# Altium footprint library QFP.PcbLib: 39 footprints (part 1 of 3)
Each footprint in its own frame and in the unit in brackets; x right, y up, seen from the top. Pads: shape width x height; smd on the part's side, far side on the other; paste and mask are expansions set on the pad; w line width, h text height; cw(c..) or ccw(c..) is an arc to the next point about the centre after c.
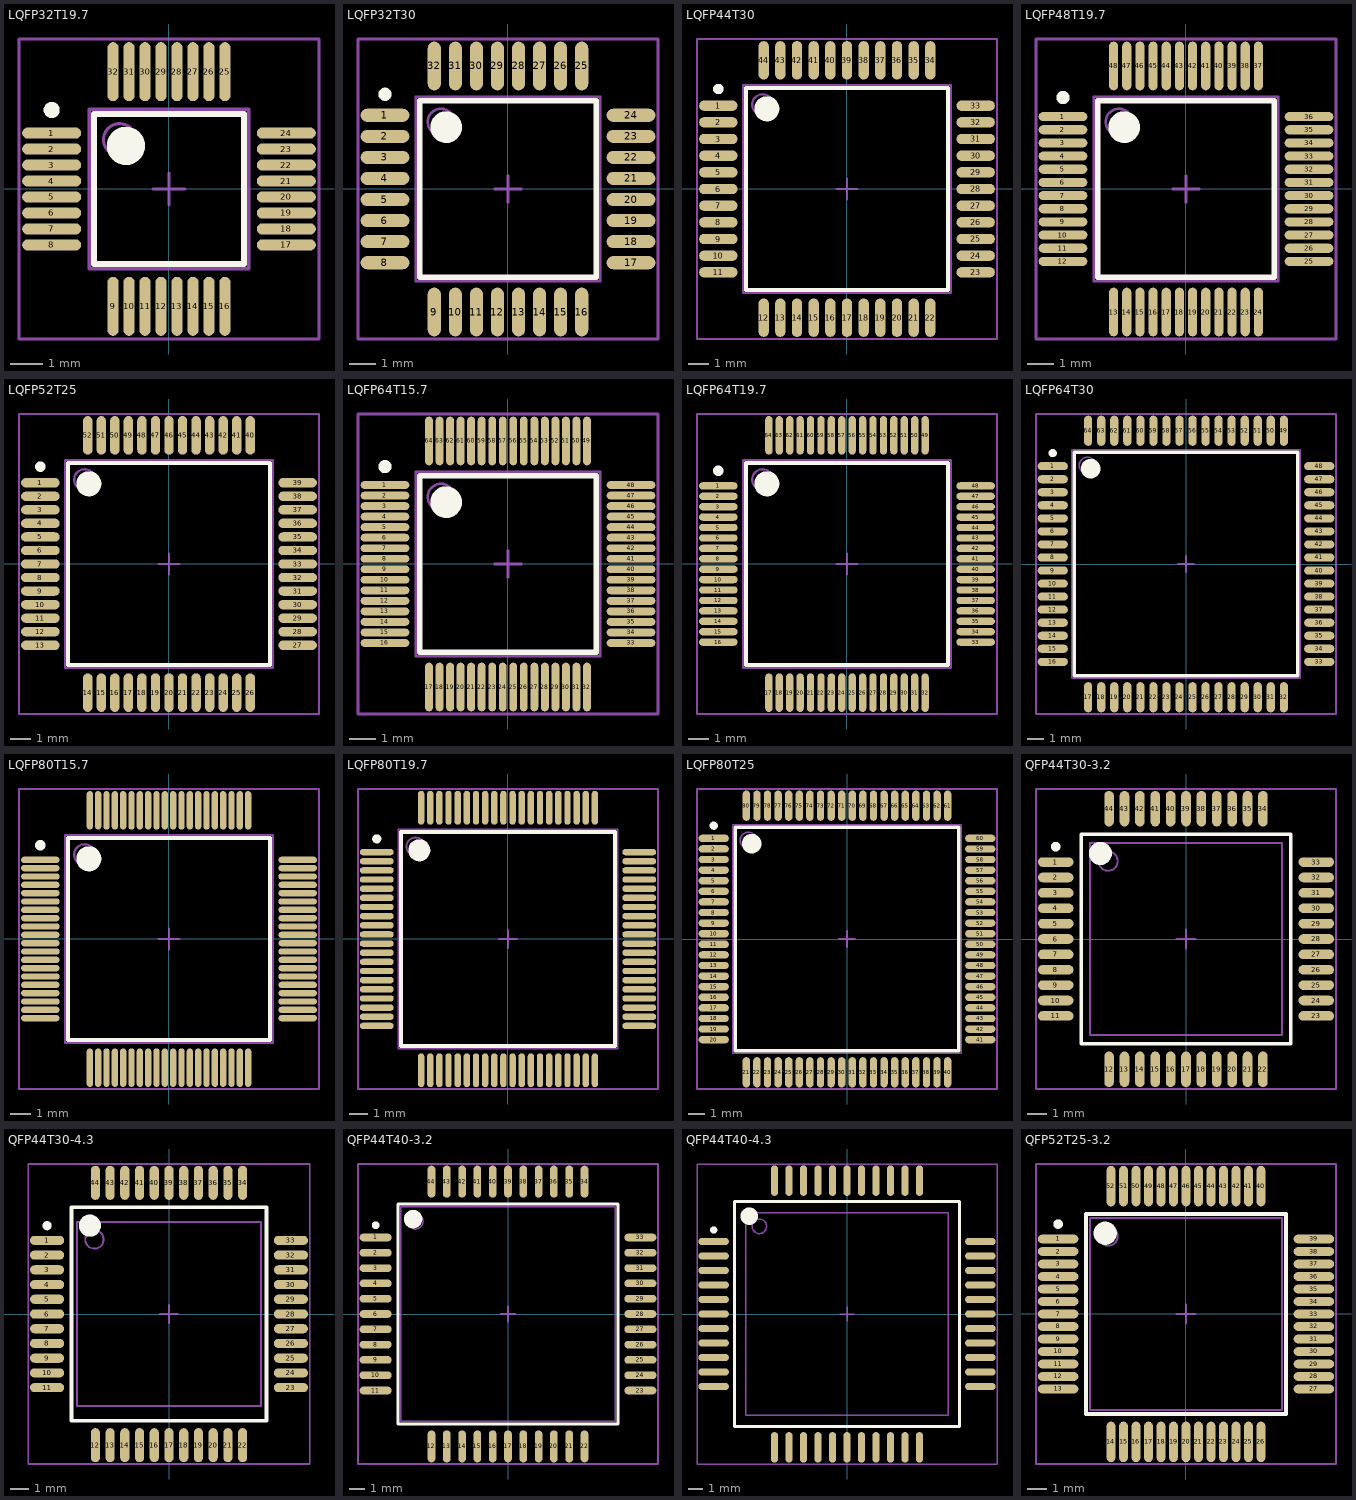
[diagram p0: the footprints below, top view; thin cyan lines are the x and y axes]

## LQFP32T19.7 [mm] "32 5 x 5mm 0.5mm (19.7mil)"
height 1.6
pads (32):
  oval 1.85x0.35 smd: 1(-3.675,1.75) 2(-3.675,1.25) 3(-3.675,0.75) 4(-3.675,0.25) 5(-3.675,-0.25) 6(-3.675,-0.75) 7(-3.675,-1.25) 8(-3.675,-1.75) 17(3.675,-1.75) 18(3.675,-1.25) 19(3.675,-0.75) 20(3.675,-0.25) 21(3.675,0.25) 22(3.675,0.75) 23(3.675,1.25) 24(3.675,1.75)
  oval 0.35x1.85 smd: 9(-1.75,-3.675) 10(-1.25,-3.675) 11(-0.75,-3.675) 12(-0.25,-3.675) 13(0.25,-3.675) 14(0.75,-3.675) 15(1.25,-3.675) 16(1.75,-3.675) 25(1.75,3.675) 26(1.25,3.675) 27(0.75,3.675) 28(0.25,3.675) 29(-0.25,3.675) 30(-0.75,3.675) 31(-1.25,3.675) 32(-1.75,3.675)
Top Overlay:
  circle w0.6: c-1.35,1.35 r0.3
  circle w0.25: c-3.675,2.475 r0.125
  lines w0.2: -2.35,-2.35 2.35,-2.35 2.35,2.35 -2.35,2.35 -2.35,-2.35
Mechanical 13:
  circle w0.1: c-1.55,1.55 r0.5
  lines w0.1: -2.5,-2.5 2.5,-2.5 2.5,2.5 -2.5,2.5 -2.5,-2.5
Mechanical 15:
  lines w0.1: -0.5,0 0.5,0 ; 0,-0.5 0,0.5 ; -4.7,-4.7 4.7,-4.7 4.7,4.7 -4.7,4.7 -4.7,-4.7
3D body: height 1.6, standoff 0.15, extent -2.5,-2.5 2.5,2.5

## LQFP32T30 [mm] "32 7 x 7mm 0.8mm (31.5mil)"
height 1.6
pads (32):
  oval 1.85x0.5 smd: 1(-4.675,2.8) 2(-4.675,2) 3(-4.675,1.2) 4(-4.675,0.4) 5(-4.675,-0.4) 6(-4.675,-1.2) 7(-4.675,-2) 8(-4.675,-2.8) 17(4.675,-2.8) 18(4.675,-2) 19(4.675,-1.2) 20(4.675,-0.4) 21(4.675,0.4) 22(4.675,1.2) 23(4.675,2) 24(4.675,2.8)
  oval 0.5x1.85 smd: 9(-2.8,-4.675) 10(-2,-4.675) 11(-1.2,-4.675) 12(-0.4,-4.675) 13(0.4,-4.675) 14(1.2,-4.675) 15(2,-4.675) 16(2.8,-4.675) 25(2.8,4.675) 26(2,4.675) 27(1.2,4.675) 28(0.4,4.675) 29(-0.4,4.675) 30(-1.2,4.675) 31(-2,4.675) 32(-2.8,4.675)
Top Overlay:
  circle w0.6: c-2.35,2.35 r0.3
  circle w0.25: c-4.675,3.6 r0.125
  lines w0.2: -3.35,-3.35 3.35,-3.35 3.35,3.35 -3.35,3.35 -3.35,-3.35
Mechanical 13:
  circle w0.1: c-2.55,2.55 r0.5
  lines w0.1: -3.5,-3.5 3.5,-3.5 3.5,3.5 -3.5,3.5 -3.5,-3.5
Mechanical 15:
  lines w0.1: -0.5,0 0.5,0 ; 0,-0.5 0,0.5 ; -5.7,-5.7 5.7,-5.7 5.7,5.7 -5.7,5.7 -5.7,-5.7
3D body: height 1.6, standoff 0.2, extent -3.5,-3.5 3.5,3.5

## LQFP44T30 [mm] "44 10 x 10mm 0.8mm (31.5mil)"
height 1.6
pads (44):
  oval 1.85x0.5 smd: 1(-6.175,4) 2(-6.175,3.2) 3(-6.175,2.4) 4(-6.175,1.6) 5(-6.175,0.8) 6(-6.175,0) 7(-6.175,-0.8) 8(-6.175,-1.6) 9(-6.175,-2.4) 10(-6.175,-3.2) 11(-6.175,-4) 23(6.175,-4) 24(6.175,-3.2) 25(6.175,-2.4) 26(6.175,-1.6) 27(6.175,-0.8) 28(6.175,0) 29(6.175,0.8) 30(6.175,1.6) 31(6.175,2.4) 32(6.175,3.2) 33(6.175,4)
  oval 0.5x1.85 smd: 12(-4,-6.175) 13(-3.2,-6.175) 14(-2.4,-6.175) 15(-1.6,-6.175) 16(-0.8,-6.175) 17(0,-6.175) 18(0.8,-6.175) 19(1.6,-6.175) 20(2.4,-6.175) 21(3.2,-6.175) 22(4,-6.175) 34(4,6.175) 35(3.2,6.175) 36(2.4,6.175) 37(1.6,6.175) 38(0.8,6.175) 39(0,6.175) 40(-0.8,6.175) 41(-1.6,6.175) 42(-2.4,6.175) 43(-3.2,6.175) 44(-4,6.175)
Top Overlay:
  circle w0.25: c-6.175,4.8 r0.125
  circle w0.6: c-3.85,3.85 r0.3
  lines w0.2: -4.85,-4.85 -4.85,4.85 4.85,4.85 4.85,-4.85 -4.85,-4.85
Mechanical 13:
  circle w0.1: c-4.05,4.05 r0.5
  lines w0.1: -5,-5 -5,5 5,5 5,-5 -5,-5
Mechanical 15:
  lines w0.1: -0.5,0 0.5,0 ; 0,-0.5 0,0.5 ; -7.2,-7.2 -7.2,7.2 7.2,7.2 7.2,-7.2 -7.2,-7.2
3D body: height 1.6, standoff 0.2, extent -5,-5 5,5

## LQFP48T19.7 [mm] "48 7 x 7mm 0.5mm (19.7mil)"
height 1.6
pads (48):
  oval 1.85x0.35 smd: 1(-4.675,2.75) 2(-4.675,2.25) 3(-4.675,1.75) 4(-4.675,1.25) 5(-4.675,0.75) 6(-4.675,0.25) 7(-4.675,-0.25) 8(-4.675,-0.75) 9(-4.675,-1.25) 10(-4.675,-1.75) 11(-4.675,-2.25) 12(-4.675,-2.75) 25(4.675,-2.75) 26(4.675,-2.25) 27(4.675,-1.75) 28(4.675,-1.25) 29(4.675,-0.75) 30(4.675,-0.25) 31(4.675,0.25) 32(4.675,0.75) 33(4.675,1.25) 34(4.675,1.75) 35(4.675,2.25) 36(4.675,2.75)
  oval 0.35x1.85 smd: 13(-2.75,-4.675) 14(-2.25,-4.675) 15(-1.75,-4.675) 16(-1.25,-4.675) 17(-0.75,-4.675) 18(-0.25,-4.675) 19(0.25,-4.675) 20(0.75,-4.675) 21(1.25,-4.675) 22(1.75,-4.675) 23(2.25,-4.675) 24(2.75,-4.675) 37(2.75,4.675) 38(2.25,4.675) 39(1.75,4.675) 40(1.25,4.675) 41(0.75,4.675) 42(0.25,4.675) 43(-0.25,4.675) 44(-0.75,4.675) 45(-1.25,4.675) 46(-1.75,4.675) 47(-2.25,4.675) 48(-2.75,4.675)
Top Overlay:
  circle w0.25: c-4.675,3.475 r0.125
  circle w0.6: c-2.35,2.35 r0.3
  lines w0.2: -3.35,-3.35 -3.35,3.35 3.35,3.35 3.35,-3.35 -3.35,-3.35
Mechanical 13:
  circle w0.1: c-2.55,2.55 r0.5
  lines w0.1: -3.5,-3.5 -3.5,3.5 3.5,3.5 3.5,-3.5 -3.5,-3.5
Mechanical 15:
  lines w0.1: -0.5,0 0.5,0 ; 0,-0.5 0,0.5 ; -5.7,-5.7 -5.7,5.7 5.7,5.7 5.7,-5.7 -5.7,-5.7
3D body: height 1.6, standoff 0.15, extent -3.5,-3.5 3.5,3.5

## LQFP52T25 [mm] "52 10 x 10mm 0.65mm (25.6mil)"
height 1.6
pads (52):
  oval 1.85x0.45 smd: 1(-6.175,3.9) 2(-6.175,3.25) 3(-6.175,2.6) 4(-6.175,1.95) 5(-6.175,1.3) 6(-6.175,0.65) 7(-6.175,0) 8(-6.175,-0.65) 9(-6.175,-1.3) 10(-6.175,-1.95) 11(-6.175,-2.6) 12(-6.175,-3.25) 13(-6.175,-3.9) 27(6.175,-3.9) 28(6.175,-3.25) 29(6.175,-2.6) 30(6.175,-1.95) 31(6.175,-1.3) 32(6.175,-0.65) 33(6.175,0) 34(6.175,0.65) 35(6.175,1.3) 36(6.175,1.95) 37(6.175,2.6) 38(6.175,3.25) 39(6.175,3.9)
  oval 0.45x1.85 smd: 14(-3.9,-6.175) 15(-3.25,-6.175) 16(-2.6,-6.175) 17(-1.95,-6.175) 18(-1.3,-6.175) 19(-0.65,-6.175) 20(0,-6.175) 21(0.65,-6.175) 22(1.3,-6.175) 23(1.95,-6.175) 24(2.6,-6.175) 25(3.25,-6.175) 26(3.9,-6.175) 40(3.9,6.175) 41(3.25,6.175) 42(2.6,6.175) 43(1.95,6.175) 44(1.3,6.175) 45(0.65,6.175) 46(0,6.175) 47(-0.65,6.175) 48(-1.3,6.175) 49(-1.95,6.175) 50(-2.6,6.175) 51(-3.25,6.175) 52(-3.9,6.175)
Top Overlay:
  circle w0.25: c-6.175,4.675 r0.125
  circle w0.6: c-3.85,3.85 r0.3
  lines w0.2: -4.85,-4.85 -4.85,4.85 4.85,4.85 4.85,-4.85 -4.85,-4.85
Mechanical 13:
  circle w0.1: c-4.05,4.05 r0.5
  lines w0.1: -5,-5 -5,5 5,5 5,-5 -5,-5
Mechanical 15:
  lines w0.1: -0.5,0 0.5,0 ; 0,-0.5 0,0.5 ; -7.2,-7.2 -7.2,7.2 7.2,7.2 7.2,-7.2 -7.2,-7.2
3D body: height 1.6, standoff 0.2, extent -5,-5 5,5

## LQFP64T15.7 [mm] "64 7 x 7mm 0.4mm (15.7mil)"
height 1
pads (64):
  oval 1.85x0.3 smd: 1(-4.675,3) 2(-4.675,2.6) 3(-4.675,2.2) 4(-4.675,1.8) 5(-4.675,1.4) 6(-4.675,1) 7(-4.675,0.6) 8(-4.675,0.2) 9(-4.675,-0.2) 10(-4.675,-0.6) 11(-4.675,-1) 12(-4.675,-1.4) 13(-4.675,-1.8) 14(-4.675,-2.2) 15(-4.675,-2.6) 16(-4.675,-3) 33(4.675,-3) 34(4.675,-2.6) 35(4.675,-2.2) 36(4.675,-1.8) 37(4.675,-1.4) 38(4.675,-1) 39(4.675,-0.6) 40(4.675,-0.2) 41(4.675,0.2) 42(4.675,0.6) 43(4.675,1) 44(4.675,1.4) 45(4.675,1.8) 46(4.675,2.2) 47(4.675,2.6) 48(4.675,3)
  oval 0.3x1.85 smd: 17(-3,-4.675) 18(-2.6,-4.675) 19(-2.2,-4.675) 20(-1.8,-4.675) 21(-1.4,-4.675) 22(-1,-4.675) 23(-0.6,-4.675) 24(-0.2,-4.675) 25(0.2,-4.675) 26(0.6,-4.675) 27(1,-4.675) 28(1.4,-4.675) 29(1.8,-4.675) 30(2.2,-4.675) 31(2.6,-4.675) 32(3,-4.675) 49(3,4.675) 50(2.6,4.675) 51(2.2,4.675) 52(1.8,4.675) 53(1.4,4.675) 54(1,4.675) 55(0.6,4.675) 56(0.2,4.675) 57(-0.2,4.675) 58(-0.6,4.675) 59(-1,4.675) 60(-1.4,4.675) 61(-1.8,4.675) 62(-2.2,4.675) 63(-2.6,4.675) 64(-3,4.675)
Top Overlay:
  circle w0.25: c-4.675,3.7 r0.125
  circle w0.6: c-2.35,2.35 r0.3
  lines w0.2: -3.35,-3.35 -3.35,3.35 3.35,3.35 3.35,-3.35 -3.35,-3.35
Mechanical 13:
  circle w0.1: c-2.55,2.55 r0.5
  lines w0.1: -3.5,-3.5 -3.5,3.5 3.5,3.5 3.5,-3.5 -3.5,-3.5
Mechanical 15:
  lines w0.1: -0.5,0 0.5,0 ; 0,-0.5 0,0.5 ; -5.7,-5.7 -5.7,5.7 5.7,5.7 5.7,-5.7 -5.7,-5.7
3D body: height 1, standoff 0.2, extent -3.5,-3.5 3.5,3.5

## LQFP64T19.7 [mm] "64 10 x 10mm 0.5mm (19.7mil)"
height 1.6
pads (64):
  oval 1.85x0.35 smd: 1(-6.175,3.75) 2(-6.175,3.25) 3(-6.175,2.75) 4(-6.175,2.25) 5(-6.175,1.75) 6(-6.175,1.25) 7(-6.175,0.75) 8(-6.175,0.25) 9(-6.175,-0.25) 10(-6.175,-0.75) 11(-6.175,-1.25) 12(-6.175,-1.75) 13(-6.175,-2.25) 14(-6.175,-2.75) 15(-6.175,-3.25) 16(-6.175,-3.75) 33(6.175,-3.75) 34(6.175,-3.25) 35(6.175,-2.75) 36(6.175,-2.25) 37(6.175,-1.75) 38(6.175,-1.25) 39(6.175,-0.75) 40(6.175,-0.25) 41(6.175,0.25) 42(6.175,0.75) 43(6.175,1.25) 44(6.175,1.75) 45(6.175,2.25) 46(6.175,2.75) 47(6.175,3.25) 48(6.175,3.75)
  oval 0.35x1.85 smd: 17(-3.75,-6.175) 18(-3.25,-6.175) 19(-2.75,-6.175) 20(-2.25,-6.175) 21(-1.75,-6.175) 22(-1.25,-6.175) 23(-0.75,-6.175) 24(-0.25,-6.175) 25(0.25,-6.175) 26(0.75,-6.175) 27(1.25,-6.175) 28(1.75,-6.175) 29(2.25,-6.175) 30(2.75,-6.175) 31(3.25,-6.175) 32(3.75,-6.175) 49(3.75,6.175) 50(3.25,6.175) 51(2.75,6.175) 52(2.25,6.175) 53(1.75,6.175) 54(1.25,6.175) 55(0.75,6.175) 56(0.25,6.175) 57(-0.25,6.175) 58(-0.75,6.175) 59(-1.25,6.175) 60(-1.75,6.175) 61(-2.25,6.175) 62(-2.75,6.175) 63(-3.25,6.175) 64(-3.75,6.175)
Top Overlay:
  circle w0.25: c-6.175,4.475 r0.125
  circle w0.6: c-3.85,3.85 r0.3
  lines w0.2: -4.85,-4.85 -4.85,4.85 4.85,4.85 4.85,-4.85 -4.85,-4.85
Mechanical 13:
  circle w0.1: c-4.05,4.05 r0.5
  lines w0.1: -5,-5 -5,5 5,5 5,-5 -5,-5
Mechanical 15:
  lines w0.1: -0.5,0 0.5,0 ; 0,-0.5 0,0.5 ; -7.2,-7.2 -7.2,7.2 7.2,7.2 7.2,-7.2 -7.2,-7.2
3D body: height 1.6, standoff 0.15, extent -5,-5 5,5

## LQFP64T30 [mm] "64 14 x 14mm 0.8mm (31.5mil)"
height 1.6
pads (64):
  oval 1.85x0.5 smd: 1(-8.175,6) 2(-8.175,5.2) 3(-8.175,4.4) 4(-8.175,3.6) 5(-8.175,2.8) 6(-8.175,2) 7(-8.175,1.2) 8(-8.175,0.4) 9(-8.175,-0.4) 10(-8.175,-1.2) 11(-8.175,-2) 12(-8.175,-2.8) 13(-8.175,-3.6) 14(-8.175,-4.4) 15(-8.175,-5.2) 16(-8.175,-6) 33(8.175,-6) 34(8.175,-5.2) 35(8.175,-4.4) 36(8.175,-3.6) 37(8.175,-2.8) 38(8.175,-2) 39(8.175,-1.2) 40(8.175,-0.4) 41(8.175,0.4) 42(8.175,1.2) 43(8.175,2) 44(8.175,2.8) 45(8.175,3.6) 46(8.175,4.4) 47(8.175,5.2) 48(8.175,6)
  oval 0.5x1.85 smd: 17(-6,-8.175) 18(-5.2,-8.175) 19(-4.4,-8.175) 20(-3.6,-8.175) 21(-2.8,-8.175) 22(-2,-8.175) 23(-1.2,-8.175) 24(-0.4,-8.175) 25(0.4,-8.175) 26(1.2,-8.175) 27(2,-8.175) 28(2.8,-8.175) 29(3.6,-8.175) 30(4.4,-8.175) 31(5.2,-8.175) 32(6,-8.175) 49(6,8.175) 50(5.2,8.175) 51(4.4,8.175) 52(3.6,8.175) 53(2.8,8.175) 54(2,8.175) 55(1.2,8.175) 56(0.4,8.175) 57(-0.4,8.175) 58(-1.2,8.175) 59(-2,8.175) 60(-2.8,8.175) 61(-3.6,8.175) 62(-4.4,8.175) 63(-5.2,8.175) 64(-6,8.175)
Top Overlay:
  circle w0.25: c-8.175,6.8 r0.125
  circle w0.6: c-5.85,5.85 r0.3
  lines w0.2: -6.85,-6.85 -6.85,6.85 6.85,6.85 6.85,-6.85 -6.85,-6.85
Mechanical 13:
  circle w0.1: c-6.05,6.05 r0.5
  lines w0.1: -7,-7 -7,7 7,7 7,-7 -7,-7
Mechanical 15:
  lines w0.1: -0.5,0 0.5,0 ; 0,-0.5 0,0.5 ; -9.2,-9.2 -9.2,9.2 9.2,9.2 9.2,-9.2 -9.2,-9.2
3D body: height 1.6, standoff 0.2, extent -7,-7 7,7

## LQFP80T15.7 [mm] "80 10 x 10mm 0.4mm (15.7mil)"
height 1.6
pads (80):
  oval 1.85x0.3 smd: 1(-6.175,3.8) 2(-6.175,3.4) 3(-6.175,3) 4(-6.175,2.6) 5(-6.175,2.2) 6(-6.175,1.8) 7(-6.175,1.4) 8(-6.175,1) 9(-6.175,0.6) 10(-6.175,0.2) 11(-6.175,-0.2) 12(-6.175,-0.6) 13(-6.175,-1) 14(-6.175,-1.4) 15(-6.175,-1.8) 16(-6.175,-2.2) 17(-6.175,-2.6) 18(-6.175,-3) 19(-6.175,-3.4) 20(-6.175,-3.8) 41(6.175,-3.8) 42(6.175,-3.4) 43(6.175,-3) 44(6.175,-2.6) 45(6.175,-2.2) 46(6.175,-1.8) 47(6.175,-1.4) 48(6.175,-1) 49(6.175,-0.6) 50(6.175,-0.2) 51(6.175,0.2) 52(6.175,0.6) 53(6.175,1) 54(6.175,1.4) 55(6.175,1.8) 56(6.175,2.2) 57(6.175,2.6) 58(6.175,3) 59(6.175,3.4) 60(6.175,3.8)
  oval 0.3x1.85 smd: 21(-3.8,-6.175) 22(-3.4,-6.175) 23(-3,-6.175) 24(-2.6,-6.175) 25(-2.2,-6.175) 26(-1.8,-6.175) 27(-1.4,-6.175) 28(-1,-6.175) 29(-0.6,-6.175) 30(-0.2,-6.175) 31(0.2,-6.175) 32(0.6,-6.175) 33(1,-6.175) 34(1.4,-6.175) 35(1.8,-6.175) 36(2.2,-6.175) 37(2.6,-6.175) 38(3,-6.175) 39(3.4,-6.175) 40(3.8,-6.175) 61(3.8,6.175) 62(3.4,6.175) 63(3,6.175) 64(2.6,6.175) 65(2.2,6.175) 66(1.8,6.175) 67(1.4,6.175) 68(1,6.175) 69(0.6,6.175) 70(0.2,6.175) 71(-0.2,6.175) 72(-0.6,6.175) 73(-1,6.175) 74(-1.4,6.175) 75(-1.8,6.175) 76(-2.2,6.175) 77(-2.6,6.175) 78(-3,6.175) 79(-3.4,6.175) 80(-3.8,6.175)
Top Overlay:
  circle w0.25: c-6.175,4.5 r0.125
  circle w0.6: c-3.85,3.85 r0.3
  lines w0.2: -4.85,-4.85 -4.85,4.85 4.85,4.85 4.85,-4.85 -4.85,-4.85
Mechanical 13:
  circle w0.1: c-4.05,4.05 r0.5
  lines w0.1: -5,-5 -5,5 5,5 5,-5 -5,-5
Mechanical 15:
  lines w0.1: -0.5,0 0.5,0 ; 0,-0.5 0,0.5 ; -7.2,-7.2 -7.2,7.2 7.2,7.2 7.2,-7.2 -7.2,-7.2
3D body: height 1.6, standoff 0.2, extent -5,-5 5,5

## LQFP80T19.7 [mm] "80 12 x 12mm 0.5mm (19.7mil)"
height 1.6
pads (80):
  oval 1.85x0.35 smd: 1(-7.175,4.75) 2(-7.175,4.25) 3(-7.175,3.75) 4(-7.175,3.25) 5(-7.175,2.75) 6(-7.175,2.25) 7(-7.175,1.75) 8(-7.175,1.25) 9(-7.175,0.75) 10(-7.175,0.25) 11(-7.175,-0.25) 12(-7.175,-0.75) 13(-7.175,-1.25) 14(-7.175,-1.75) 15(-7.175,-2.25) 16(-7.175,-2.75) 17(-7.175,-3.25) 18(-7.175,-3.75) 19(-7.175,-4.25) 20(-7.175,-4.75) 41(7.175,-4.75) 42(7.175,-4.25) 43(7.175,-3.75) 44(7.175,-3.25) 45(7.175,-2.75) 46(7.175,-2.25) 47(7.175,-1.75) 48(7.175,-1.25) 49(7.175,-0.75) 50(7.175,-0.25) 51(7.175,0.25) 52(7.175,0.75) 53(7.175,1.25) 54(7.175,1.75) 55(7.175,2.25) 56(7.175,2.75) 57(7.175,3.25) 58(7.175,3.75) 59(7.175,4.25) 60(7.175,4.75)
  oval 0.35x1.85 smd: 21(-4.75,-7.175) 22(-4.25,-7.175) 23(-3.75,-7.175) 24(-3.25,-7.175) 25(-2.75,-7.175) 26(-2.25,-7.175) 27(-1.75,-7.175) 28(-1.25,-7.175) 29(-0.75,-7.175) 30(-0.25,-7.175) 31(0.25,-7.175) 32(0.75,-7.175) 33(1.25,-7.175) 34(1.75,-7.175) 35(2.25,-7.175) 36(2.75,-7.175) 37(3.25,-7.175) 38(3.75,-7.175) 39(4.25,-7.175) 40(4.75,-7.175) 61(4.75,7.175) 62(4.25,7.175) 63(3.75,7.175) 64(3.25,7.175) 65(2.75,7.175) 66(2.25,7.175) 67(1.75,7.175) 68(1.25,7.175) 69(0.75,7.175) 70(0.25,7.175) 71(-0.25,7.175) 72(-0.75,7.175) 73(-1.25,7.175) 74(-1.75,7.175) 75(-2.25,7.175) 76(-2.75,7.175) 77(-3.25,7.175) 78(-3.75,7.175) 79(-4.25,7.175) 80(-4.75,7.175)
Top Overlay:
  circle w0.25: c-7.175,5.475 r0.125
  circle w0.6: c-4.85,4.85 r0.3
  lines w0.2: -5.85,-5.85 -5.85,5.85 5.85,5.85 5.85,-5.85 -5.85,-5.85
Mechanical 13:
  circle w0.1: c-5.05,5.05 r0.5
  lines w0.1: -6,-6 -6,6 6,6 6,-6 -6,-6
Mechanical 15:
  lines w0.1: -0.5,0 0.5,0 ; 0,-0.5 0,0.5 ; -8.2,-8.2 -8.2,8.2 8.2,8.2 8.2,-8.2 -8.2,-8.2
3D body: height 1.6, standoff 0.15, extent -6,-6 6,6

## LQFP80T25 [mm] "80 14 x 14mm 0.65mm (25.6mil)"
height 1.6
pads (80):
  oval 1.85x0.45 smd: 1(-8.175,6.175) 2(-8.175,5.525) 3(-8.175,4.875) 4(-8.175,4.225) 5(-8.175,3.575) 6(-8.175,2.925) 7(-8.175,2.275) 8(-8.175,1.625) 9(-8.175,0.975) 10(-8.175,0.325) 11(-8.175,-0.325) 12(-8.175,-0.975) 13(-8.175,-1.625) 14(-8.175,-2.275) 15(-8.175,-2.925) 16(-8.175,-3.575) 17(-8.175,-4.225) 18(-8.175,-4.875) 19(-8.175,-5.525) 20(-8.175,-6.175) 41(8.175,-6.175) 42(8.175,-5.525) 43(8.175,-4.875) 44(8.175,-4.225) 45(8.175,-3.575) 46(8.175,-2.925) 47(8.175,-2.275) 48(8.175,-1.625) 49(8.175,-0.975) 50(8.175,-0.325) 51(8.175,0.325) 52(8.175,0.975) 53(8.175,1.625) 54(8.175,2.275) 55(8.175,2.925) 56(8.175,3.575) 57(8.175,4.225) 58(8.175,4.875) 59(8.175,5.525) 60(8.175,6.175)
  oval 0.45x1.85 smd: 21(-6.175,-8.175) 22(-5.525,-8.175) 23(-4.875,-8.175) 24(-4.225,-8.175) 25(-3.575,-8.175) 26(-2.925,-8.175) 27(-2.275,-8.175) 28(-1.625,-8.175) 29(-0.975,-8.175) 30(-0.325,-8.175) 31(0.325,-8.175) 32(0.975,-8.175) 33(1.625,-8.175) 34(2.275,-8.175) 35(2.925,-8.175) 36(3.575,-8.175) 37(4.225,-8.175) 38(4.875,-8.175) 39(5.525,-8.175) 40(6.175,-8.175) 61(6.175,8.175) 62(5.525,8.175) 63(4.875,8.175) 64(4.225,8.175) 65(3.575,8.175) 66(2.925,8.175) 67(2.275,8.175) 68(1.625,8.175) 69(0.975,8.175) 70(0.325,8.175) 71(-0.325,8.175) 72(-0.975,8.175) 73(-1.625,8.175) 74(-2.275,8.175) 75(-2.925,8.175) 76(-3.575,8.175) 77(-4.225,8.175) 78(-4.875,8.175) 79(-5.525,8.175) 80(-6.175,8.175)
Top Overlay:
  circle w0.25: c-8.175,6.95 r0.125
  circle w0.6: c-5.85,5.85 r0.3
  lines w0.2: -6.85,-6.85 -6.85,6.85 6.85,6.85 6.85,-6.85 -6.85,-6.85
Mechanical 13:
  circle w0.1: c-6.05,6.05 r0.5
  lines w0.1: -7,-7 -7,7 7,7 7,-7 -7,-7
Mechanical 15:
  lines w0.1: -0.5,0 0.5,0 ; 0,-0.5 0,0.5 ; -9.2,-9.2 -9.2,9.2 9.2,9.2 9.2,-9.2 -9.2,-9.2
3D body: height 1.6, standoff 0.2, extent -7,-7 7,7

## QFP44T30-3.2 [mm] "44   3.2mm   10 x 10mm   0.8mm (31.5mil)"
height 1
pads (44):
  oval 1.85x0.5 smd: 1(-6.775,4) 2(-6.775,3.2) 3(-6.775,2.4) 4(-6.775,1.6) 5(-6.775,0.8) 6(-6.775,0) 7(-6.775,-0.8) 8(-6.775,-1.6) 9(-6.775,-2.4) 10(-6.775,-3.2) 11(-6.775,-4) 23(6.775,-4) 24(6.775,-3.2) 25(6.775,-2.4) 26(6.775,-1.6) 27(6.775,-0.8) 28(6.775,0) 29(6.775,0.8) 30(6.775,1.6) 31(6.775,2.4) 32(6.775,3.2) 33(6.775,4)
  oval 0.5x1.85 smd: 12(-4,-6.775) 13(-3.2,-6.775) 14(-2.4,-6.775) 15(-1.6,-6.775) 16(-0.8,-6.775) 17(0,-6.775) 18(0.8,-6.775) 19(1.6,-6.775) 20(2.4,-6.775) 21(3.2,-6.775) 22(4,-6.775) 34(4,6.775) 35(3.2,6.775) 36(2.4,6.775) 37(1.6,6.775) 38(0.8,6.775) 39(0,6.775) 40(-0.8,6.775) 41(-1.6,6.775) 42(-2.4,6.775) 43(-3.2,6.775) 44(-4,6.775)
Top Overlay:
  circle w0.25: c-6.775,4.8 r0.125
  circle w0.6: c-4.45,4.45 r0.3
  lines w0.2: -5.45,-5.45 -5.45,5.45 5.45,5.45 5.45,-5.45 -5.45,-5.45
Mechanical 13:
  circle w0.1: c-4.05,4.05 r0.5
  lines w0.1: -5,-5 -5,5 5,5 5,-5 -5,-5
Mechanical 15:
  lines w0.1: -0.5,0 0.5,0 ; 0,-0.5 0,0.5 ; -7.8,-7.8 -7.8,7.8 7.8,7.8 7.8,-7.8 -7.8,-7.8
3D body: height 1, standoff 0.2, extent -5,-5 5,5

## QFP44T30-4.3 [mm] "44   3.9mm   10 x 10mm   0.8mm (31.5mil)"
height 1
pads (44):
  oval 1.85x0.5 smd: 1(-6.625,4) 2(-6.625,3.2) 3(-6.625,2.4) 4(-6.625,1.6) 5(-6.625,0.8) 6(-6.625,0) 7(-6.625,-0.8) 8(-6.625,-1.6) 9(-6.625,-2.4) 10(-6.625,-3.2) 11(-6.625,-4) 23(6.625,-4) 24(6.625,-3.2) 25(6.625,-2.4) 26(6.625,-1.6) 27(6.625,-0.8) 28(6.625,0) 29(6.625,0.8) 30(6.625,1.6) 31(6.625,2.4) 32(6.625,3.2) 33(6.625,4)
  oval 0.5x1.85 smd: 12(-4,-7.125) 13(-3.2,-7.125) 14(-2.4,-7.125) 15(-1.6,-7.125) 16(-0.8,-7.125) 17(0,-7.125) 18(0.8,-7.125) 19(1.6,-7.125) 20(2.4,-7.125) 21(3.2,-7.125) 22(4,-7.125) 34(4,7.125) 35(3.2,7.125) 36(2.4,7.125) 37(1.6,7.125) 38(0.8,7.125) 39(0,7.125) 40(-0.8,7.125) 41(-1.6,7.125) 42(-2.4,7.125) 43(-3.2,7.125) 44(-4,7.125)
Top Overlay:
  circle w0.25: c-6.625,4.8 r0.125
  circle w0.6: c-4.3,4.8 r0.3
  lines w0.2: -5.3,-5.8 -5.3,5.8 5.3,5.8 5.3,-5.8 -5.3,-5.8
Mechanical 13:
  circle w0.1: c-4.05,4.05 r0.5
  lines w0.1: -5,-5 -5,5 5,5 5,-5 -5,-5
Mechanical 15:
  lines w0.1: -0.5,0 0.5,0 ; 0,-0.5 0,0.5 ; -7.65,-8.15 -7.65,8.15 7.65,8.15 7.65,-8.15 -7.65,-8.15
3D body: height 1, standoff 0.2, extent -5,-5 5,5

## QFP44T40-3.2 [mm] "44   3.2mm   14 x 14mm   1.0mm (40mil)"
height 2
pads (44):
  oval 2.1x0.5 smd: 1(-8.65,5) 2(-8.65,4) 3(-8.65,3) 4(-8.65,2) 5(-8.65,1) 6(-8.65,0) 7(-8.65,-1) 8(-8.65,-2) 9(-8.65,-3) 10(-8.65,-4) 11(-8.65,-5) 23(8.65,-5) 24(8.65,-4) 25(8.65,-3) 26(8.65,-2) 27(8.65,-1) 28(8.65,0) 29(8.65,1) 30(8.65,2) 31(8.65,3) 32(8.65,4) 33(8.65,5)
  oval 0.5x2.1 smd: 12(-5,-8.65) 13(-4,-8.65) 14(-3,-8.65) 15(-2,-8.65) 16(-1,-8.65) 17(0,-8.65) 18(1,-8.65) 19(2,-8.65) 20(3,-8.65) 21(4,-8.65) 22(5,-8.65) 34(5,8.65) 35(4,8.65) 36(3,8.65) 37(2,8.65) 38(1,8.65) 39(0,8.65) 40(-1,8.65) 41(-2,8.65) 42(-3,8.65) 43(-4,8.65) 44(-5,8.65)
Top Overlay:
  circle w0.6: c-6.2,6.2 r0.3
  circle w0.25: c-8.65,5.8 r0.125
  lines w0.2: -7.2,-7.2 7.2,-7.2 7.2,7.2 -7.2,7.2 -7.2,-7.2
Mechanical 13:
  circle w0.1: c-6.05,6.05 r0.5
  lines w0.1: -7,-7 7,-7 7,7 -7,7 -7,-7
Mechanical 15:
  lines w0.1: -0.5,0 0.5,0 ; 0,-0.5 0,0.5 ; -9.8,-9.8 9.8,-9.8 9.8,9.8 -9.8,9.8 -9.8,-9.8
3D body: height 2, standoff 0.4, extent -7,-7 7,7

## QFP44T40-4.3 [mm] "44   4.3mm   14 x 14mm   1.0mm (40mil)"
height 2
pads (44):
  oval 2.1x0.5 smd: 1(-9.2,5) 2(-9.2,4) 3(-9.2,3) 4(-9.2,2) 5(-9.2,1) 6(-9.2,0) 7(-9.2,-1) 8(-9.2,-2) 9(-9.2,-3) 10(-9.2,-4) 11(-9.2,-5) 23(9.2,-5) 24(9.2,-4) 25(9.2,-3) 26(9.2,-2) 27(9.2,-1) 28(9.2,0) 29(9.2,1) 30(9.2,2) 31(9.2,3) 32(9.2,4) 33(9.2,5)
  oval 0.5x2.1 smd: 12(-5,-9.2) 13(-4,-9.2) 14(-3,-9.2) 15(-2,-9.2) 16(-1,-9.2) 17(0,-9.2) 18(1,-9.2) 19(2,-9.2) 20(3,-9.2) 21(4,-9.2) 22(5,-9.2) 34(5,9.2) 35(4,9.2) 36(3,9.2) 37(2,9.2) 38(1,9.2) 39(0,9.2) 40(-1,9.2) 41(-2,9.2) 42(-3,9.2) 43(-4,9.2) 44(-5,9.2)
Top Overlay:
  circle w0.25: c-9.2,5.8 r0.125
  circle w0.6: c-6.75,6.75 r0.3
  lines w0.2: -7.75,-7.75 -7.75,7.75 7.75,7.75 7.75,-7.75 -7.75,-7.75
Mechanical 13:
  circle w0.1: c-6.05,6.05 r0.5
  lines w0.1: -7,-7 -7,7 7,7 7,-7 -7,-7
Mechanical 15:
  lines w0.1: -0.5,0 0.5,0 ; 0,-0.5 0,0.5 ; -10.35,-10.35 -10.35,10.35 10.35,10.35 10.35,-10.35 -10.35,-10.35
3D body: height 2, standoff 0.4, extent -7,-7 7,7

## QFP52T25-3.2 [mm] "52 3.2mm 10 x 10mm 0.65mm (25.6mil)"
height 2
pads (52):
  oval 2.1x0.45 smd: 1(-6.65,3.9) 2(-6.65,3.25) 3(-6.65,2.6) 4(-6.65,1.95) 5(-6.65,1.3) 6(-6.65,0.65) 7(-6.65,0) 8(-6.65,-0.65) 9(-6.65,-1.3) 10(-6.65,-1.95) 11(-6.65,-2.6) 12(-6.65,-3.25) 13(-6.65,-3.9) 27(6.65,-3.9) 28(6.65,-3.25) 29(6.65,-2.6) 30(6.65,-1.95) 31(6.65,-1.3) 32(6.65,-0.65) 33(6.65,0) 34(6.65,0.65) 35(6.65,1.3) 36(6.65,1.95) 37(6.65,2.6) 38(6.65,3.25) 39(6.65,3.9)
  oval 0.45x2.1 smd: 14(-3.9,-6.65) 15(-3.25,-6.65) 16(-2.6,-6.65) 17(-1.95,-6.65) 18(-1.3,-6.65) 19(-0.65,-6.65) 20(0,-6.65) 21(0.65,-6.65) 22(1.3,-6.65) 23(1.95,-6.65) 24(2.6,-6.65) 25(3.25,-6.65) 26(3.9,-6.65) 40(3.9,6.65) 41(3.25,6.65) 42(2.6,6.65) 43(1.95,6.65) 44(1.3,6.65) 45(0.65,6.65) 46(0,6.65) 47(-0.65,6.65) 48(-1.3,6.65) 49(-1.95,6.65) 50(-2.6,6.65) 51(-3.25,6.65) 52(-3.9,6.65)
Top Overlay:
  circle w0.6: c-4.2,4.2 r0.3
  circle w0.25: c-6.65,4.675 r0.125
  lines w0.2: -5.2,-5.2 5.2,-5.2 5.2,5.2 -5.2,5.2 -5.2,-5.2
Mechanical 13:
  circle w0.1: c-4.05,4.05 r0.5
  lines w0.1: -5,-5 5,-5 5,5 -5,5 -5,-5
Mechanical 15:
  lines w0.1: -0.5,0 0.5,0 ; 0,-0.5 0,0.5 ; -7.8,-7.8 7.8,-7.8 7.8,7.8 -7.8,7.8 -7.8,-7.8
3D body: height 2, standoff 0.4, extent -5,-5 5,5